# Altium schematic symbol library Capacitors.SchLib: 260 symbols (part 2 of 3)
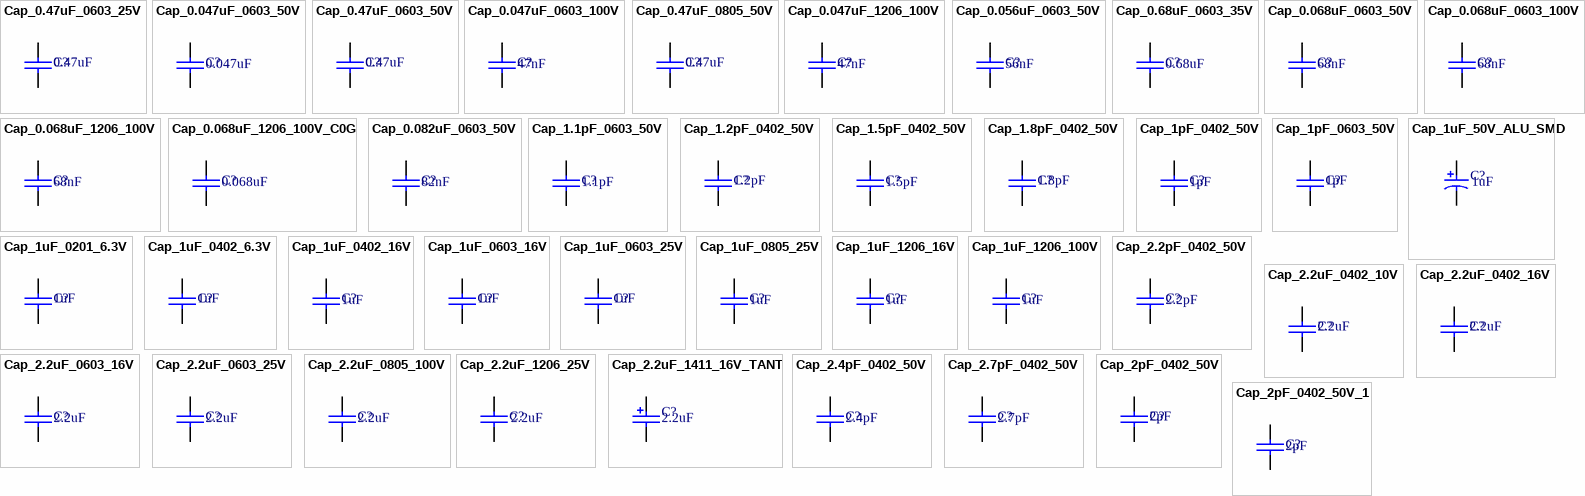
[diagram p7: symbols Cap_0.47uF_0603_25V to Cap_2pF_0402_50V_1]

## Cap_2.7pF_0402_50V
designator C?, comment value 2.7pF  (hidden comment: 2.7pF 50V)
CAP CER 2.7PF 50V C0G/NP0 0402; Manufacturer: Murata Electronics North America; Manufacturer Part Number: GJM1555C1H2R7CB01D; Supplier 1: Digi-Key; Supplier Part Number 1: 490-3093-1-ND; Reel stock: N/A; Last modified by: J.Jaramillo; Last modified date: 20240309; ComponentLink1Description: Digi-Key; ComponentLink1URL: https://www.digikey.com/product-detail/en/murata-electronics-north-america/GJM1555C1H2R7CB01D/490-3093-1-ND/702359
footprint 0402
footprint 0402_RF
pins: 1, 2

## Cap_2pF_0402_50V
designator C?, comment value 2pF  (hidden comment: 2pF 0402)
CAP CER 2PF 50V C0G/NPO 0402; Manufacturer: YAGEO; Manufacturer Part Number: CC0402CRNPO9BN2R0; Supplier 1: Digi-Key; Supplier Part Number 1: 311-1006-1-ND; Last modified by: J.Jaramillo; Last modified date: 20240309; ComponentLink1Description: Digi-Key; ComponentLink1URL: https://www.digikey.com/en/products/detail/yageo/CC0402CRNPO9BN2R0/302740
footprint 0402 (1005 Metric / 20190221 / C-A.Serna.A)
footprint 0402_RF (1005 Metric / 20190221 / C-A.Serna.A)
pins: 1, 2

## Cap_2pF_0402_50V_1
designator C?, comment value 2pF  (hidden comment: 2pF 50V)
CAP CER 2PF 50V C0G/NP0 0402; Manufacturer: Murata Electronics North America; Manufacturer Part Number: GJM1555C1H2R0CB01D; Supplier 1: Digi-key; Supplier Part Number 1: 490-3090-1-ND; Last modified by: J.Jaramillo; Last modified date: 20240309; ComponentLink1Description: Digi-key; ComponentLink1URL: https://www.digikey.com/en/products/detail/murata-electronics/GJM1555C1H2R0CB01D/702356
footprint 0402_RF
footprint 0402
pins: 1, 2

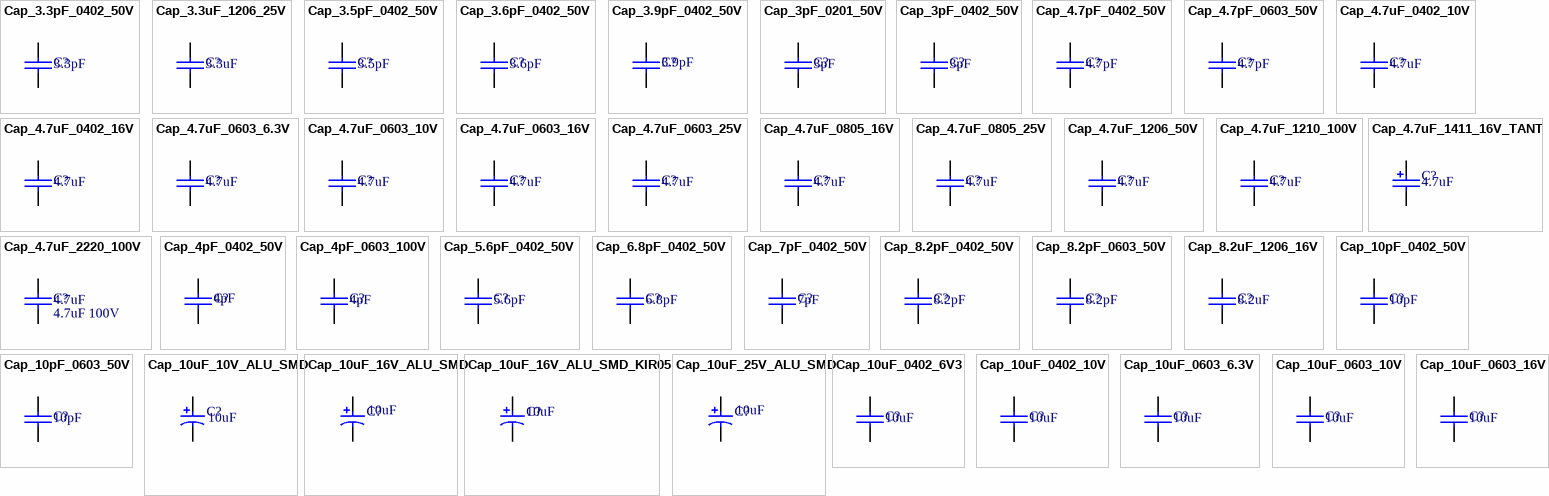
[diagram p2: symbols Cap_3.3pF_0402_50V to Cap_10uF_0603_16V]

## Cap_3.3pF_0402_50V
designator C?, comment value 3.3pF  (hidden comment: 3.3pF 50V)
CAP CER 3.3PF 50V C0G/NP0 0402; Manufacturer: Murata Electronics North America; Manufacturer Part Number: GCM1555C1H3R3CA16D; Supplier 1: Digi-key; Supplier Part Number 1: 490-17751-1-ND; Last modified by: J.Jaramillo; Last modified date: 20240309; ComponentLink1Description: Digi-key; ComponentLink1URL: https://www.digikey.com/en/products/detail/murata-electronics/GCM1555C1H3R3CA16D/4903601
footprint 0402_RF
footprint 0402
pins: 1, 2

## Cap_3.3uF_1206_25V
designator C?, comment value 3.3uF  (hidden comment: 3.3uF 25V)
CAP CER 3.3UF 25V X7R 1206; Manufacturer Part Number: CL31B335KAHVPNE; Manufacturer: Samsung; Last modified by: J.Jaramillo; Last modified date: 20240309; ComponentLink1Description: Digi-Key; ComponentLink1URL: https://www.digikey.com/en/products/detail/samsung-electro-mechanics/CL31B335KAHVPNE/5961344?s=N4IgTCBcDaIIxgOwDYC0yAcyAMq6oDkAREAXQF8g; Supplier 1: Digi-Key; Supplier Part Number 1: 1276-6860-1-ND
footprint 1206
pins: 1, 2

## Cap_3.5pF_0402_50V
designator C?, comment value 3.5pF  (hidden comment: 3.5pF 50V)
CAP CER 3.5PF 50V C0G/NP0 0402; Manufacturer: Murata Electronics; Manufacturer Part Number: GCQ1555C1H3R5CB01D; Supplier 1: Digikey; Supplier Part Number 1: 490-17466-1-ND; Last modified by: J.Jaramillo; Last modified date: 20240309; ComponentLink1Description: Digikey; ComponentLink1URL: https://www.digikey.com/en/products/detail/murata-electronics/GCQ1555C1H3R5CB01D/7802907?s=N4IgjCBcoMxaBjKAzAhgGwM4FMA0IB7KAbRAA4B2CAXXwAcAXKEAZQYCcBLAOwHMQAvvjAAWeCCSQ0WPIRIgATDErKQtEI2ZsufQcIBs4ydJz4ikUjACcYAKxk19JpFYce-IeApGUGU3IsQGAURMDI4dU0XbXc9RQAGESsfKT9Zc0sAOlsAAjoAMUcNZxAAVW5OBgB5ZABZbFRMAFd2bDiAWgUUjib0%2BWTqASGgA
footprint 0402_RF (1005 Metric / 20190221 / C-A.Serna.A)
pins: 1, 2

## Cap_3.6pF_0402_50V
designator C?, comment value 3.6pF  (hidden comment: 3.6pF 50V)
CAP CER 3.6PF 50V C0G/NP0 0402; Manufacturer: Murata Electronics; Manufacturer Part Number: GCQ1555C1H3R6CB01D; Supplier 1: Digi-key; Supplier Part Number 1: 490-17467-1-ND; Last modified by: J.Jaramillo; Last modified date: 20240309; ComponentLink1Description: Digi-key; ComponentLink1URL: https://www.digikey.com/en/products/detail/murata-electronics/GCQ1555C1H3R6CB01D/7802910
footprint 0402_RF
footprint 0402
pins: 1, 2

## Cap_3.9pF_0402_50V
designator C?, comment value 3.9pF  (hidden comment: 3.9pF 50V)
CAP CER 3.9PF 50V C0G/NP0 0402; Manufacturer: Samsung Electro-Mechanics; Manufacturer Part Number: GCM1555C1H3R9BA16D; Last modified by: J.Jaramillo; Last modified date: 20240309; ComponentLink1Description: Digi-key; ComponentLink1URL: https://www.digikey.com/en/products/detail/murata-electronics/GCM1555C1H3R9BA16D/7363190; Supplier 1: Digi-Key; Supplier Part Number 1: 490-16446-1-ND
footprint 0402_RF
footprint 0402
pins: 1, 2

## Cap_3pF_0201_50V
designator C?, comment value 3pF  (hidden comment: 3pF 50V)
CAP CER 3PF 50V C0G/NP0 0201; Manufacturer: Murata Electronics; Manufacturer Part Number: GJM0335C1H3R0BB01D; Supplier 1: Digi-Key; Supplier Part Number 1: 490-17171-1-ND; Last modified by: J.Jaramillo; Last modified date: 20240309; ComponentLink1Description: Digi-Key; ComponentLink1URL: https://www.digikey.com/en/products/detail/murata-electronics/GJM0335C1H3R0BB01D/9758990?s=N4IgTCBcDaIOICkCyAGAzGgrAYQIwAk0AlFAIVJVwBEQBdAXyA
footprint 0201 (20211214 / E.Naranjo)
pins: 1, 2

## Cap_3pF_0402_50V
designator C?, comment value 3pF  (hidden comment: 3pF 50V)
CAP CER 3PF 50V C0G/NP0 0402; Manufacturer: Murata Electronics North America; Manufacturer Part Number: GJM1555C1H3R0CB01D; Supplier 1: Digi-key; Supplier Part Number 1: 490-3094-1-ND; Last modified by: J.Jaramillo; Last modified date: 20240309; ComponentLink1Description: Digi-key; ComponentLink1URL: https://www.digikey.com/en/products/detail/murata-electronics/GJM1555C1H3R0CB01D/702287
footprint 0402_RF
footprint 0402
pins: 1, 2

## Cap_4.7pF_0402_50V
designator C?, comment value 4.7pF  (hidden comment: 4.7pF 50V)
CAP CER 4.7PF 50V C0G/NP0 0402; Manufacturer: Murata Electronics North America; Manufacturer Part Number: GJM1555C1H4R7CB01D; Supplier 1: Digi-Key; Supplier Part Number 1: 490-3100-1-ND; Last modified by: J.Jaramillo; Last modified date: 20240309; ComponentLink1Description: Digi-Key; ComponentLink1URL: https://www.digikey.com/product-detail/en/murata-electronics-north-america/GJM1555C1H4R7CB01D/490-3100-1-ND/702366
footprint 0402
footprint 0402_RF
pins: 1, 2

## Cap_4.7pF_0603_50V
designator C?, comment value 4.7pF  (hidden comment: 4.7pF 50V)
CAP CER 4.7PF 50V C0G/NPO 0603; Manufacturer Part Number: CC0603CRNPO9BN4R7; Manufacturer: Yageo; Reel stock: N/A; Last modified by: J.Jaramillo; Last modified date: 20240309; ComponentLink1Description: Digi-key; ComponentLink1URL: https://www.digikey.com/en/products/detail/yageo/CC0603CRNPO9BN4R7/5195149?s=N4IgTCBcDaIMwEYEFoEHYAsAGVyByAIiALoC%2BQA; Supplier 1: Digi-Key; Supplier Part Number 1: 311-1740-1-ND
footprint 0603
pins: 1, 2

## Cap_4.7uF_0402_10V
designator C?, comment value 4.7uF  (hidden comment: 4.7uF 10V)
CAP CER 4.7UF 10V X5R 0402; Manufacturer: Murata Electronics; Manufacturer Part Number: ZRB15XR61A475KE01D; Last modified by: J.Jaramillo; Last modified date: 20240309; ComponentLink1Description: Digi-key; ComponentLink1URL: https://www.digikey.com/products/en?keywords=490-13252-1-ND; Supplier 1: Digi-Key; Supplier Part Number 1: 490-13252-1-ND
footprint 0402_RF
footprint 0402
pins: 1, 2

## Cap_4.7uF_0402_16V
designator C?, comment value 4.7uF  (hidden comment: 4.7uF 16V)
CAP CER 4.7UF 16V X5R 0402; Manufacturer: Samsung Electro-Mechanics; Manufacturer Part Number: CL05A475MO5NUNC; Supplier 1: Digikey; Supplier Part Number 1: 1276-6836-1-ND; Last modified by: J.Jaramillo; Last modified date: 20240309; ComponentLink1Description: Digikey; ComponentLink1URL: https://www.digikey.com/en/products/detail/samsung-electro-mechanics/CL05A475MO5NUNC/5961320?s=N4IgjCBcpgLFoDGUBmBDANgZwKYBoQB7KAbXAAYAOAdlgCYQBdAgBwBcoQBlNgJwEsAdgHMQAXwJgAbAhDJI6bPiKkQAZgCcYAKyUmrDpG58hoieA2UNs%2BYtwFikMuX0h2nHgJHiCdcrGtoOVRMexUnEFgAOmoAVoAxV3cjAFVBfjYAeRQAWRw0LABXXhwfEABaBiD5PkLlRzJtJMMQMvKm6pClB1UGZjcW8XMqskQ0FiYxIA
footprint 0402 (1005 Metric / 20190221 / C-A.Serna.A)
footprint 0402_RF (1005 Metric / 20190221 / C-A.Serna.A)
pins: 1, 2

## Cap_4.7uF_0603_6.3V
designator C?, comment value 4.7uF  (hidden comment: 4.7uF 6.3V)
CAP CER 4.7UF 6.3V X5R 0603; Manufacturer: KEMET; Manufacturer Part Number: C0603C475K9PACTU; Supplier 1: Digi-Key; Supplier Part Number 1: 399-3482-1-ND; Reel stock: N/A; Last modified by: J.Jaramillo; Last modified date: 20240309; ComponentLink1Description: New link; ComponentLink1URL: https://www.digikey.com/product-detail/en/kemet/C0603C475K9PACTU/399-3482-1-ND/754775
footprint 0603 (1608 Metric / 20190221 / C-A.Serna.A)
pins: 1, 2

## Cap_4.7uF_0603_10V
designator C?, comment value 4.7uF  (hidden comment: 4.7uF 10V)
CAP CER 4.7UF 10V X5R 0603; Manufacturer: Yageo; Manufacturer Part Number: CC0603MRX5R6BB475; Supplier 1: Digi-Key; Supplier Part Number 1: 311-1820-1-ND; Last modified by: J.Jaramillo; Last modified date: 20240309; ComponentLink1Description: Digi-key; ComponentLink1URL: https://www.digikey.com/en/products/detail/yageo/CC0603MRX5R6BB475/5195227?s=N4IgTCBcDaIMwEYEFoEA4wAZXIHIBEQBdAXyA
footprint 0603
pins: 1, 2

## Cap_4.7uF_0603_16V
designator C?, comment value 4.7uF  (hidden comment: 4.7uF 16V)
CAP CER 4.7UF 16V X5R 0603; Manufacturer: TDK Corporation; Manufacturer Part Number: C1608X5R1C475K080AC; Reel stock: N/A; Last modified by: J.Jaramillo; Last modified date: 20240309; ComponentLink1Description: Digi-key; ComponentLink1URL: https://www.digikey.com/products/en?keywords=445-7478-1-ND; Supplier 1: Digi-Key; Supplier Part Number 1: 445-7478-1-ND
footprint 0603
pins: 1, 2

## Cap_4.7uF_0603_25V
designator C?, comment value 4.7uF  (hidden comment: 4.7uF 25V)
CAP CER 4.7UF 25V X5R 0603; Manufacturer: Murata Electronics; Manufacturer Part Number: GRM188R61E475KE11D; Reel stock: N/A; Last modified by: J.Jaramillo; Last modified date: 20240309; ComponentLink1Description: Digi-key; ComponentLink1URL: https://www.digikey.com/en/products/detail/murata-electronics/GRM188R61E475KE11D/3900465?s=N4IgTCBcDaICwE4AMBaA7GJBmFBGFAcgCIgC6AvkA; Supplier 1: Digi-Key; Supplier Part Number 1: 490-7203-1-ND
footprint 0603
pins: 1, 2

## Cap_4.7uF_0805_16V
designator C?, comment value 4.7uF  (hidden comment: 4.7uF 16V)
CAP CER 4.7UF 16V X5R 0805; Manufacturer: Samsung Electro-Mechanics; Manufacturer Part Number: CL21A475KOFNNNE; Last modified by: J.Jaramillo; Last modified date: 20240309; ComponentLink1Description: Digi-key; ComponentLink1URL: https://www.digikey.com/en/products/detail/samsung-electro-mechanics/CL21A475KOFNNNE/3889151; Supplier 1: Digi-Key; Supplier Part Number 1: 1276-1065-1-ND
footprint 0805 (2012 Metric / 20190221 / C-A.Serna.A)
pins: 1, 2

## Cap_4.7uF_0805_25V
designator C?, comment value 4.7uF  (hidden comment: 4.7uF 25V)
CAP CER 4.7UF 25V X5R 0805; Manufacturer: Samsung Electro-Mechanics; Manufacturer Part Number: CL21A475KAQNNNE; Last modified by: J.Jaramillo; Last modified date: 20240309; ComponentLink1Description: Digi-key; ComponentLink1URL: https://www.digikey.com/en/products/detail/samsung-electro-mechanics/CL21A475KAQNNNE/3886902; Supplier 1: Digi-Key; Supplier Part Number 1: 1276-1244-1-ND
footprint 0805 (2012 Metric / 20190221 / C-A.Serna.A)
pins: 1, 2

## Cap_4.7uF_1206_50V
designator C?, comment value 4.7uF  (hidden comment: 4.7uF 50V)
CAP CER 4.7UF 50V X5R 1206; Manufacturer: KEMET; Manufacturer Part Number: C1206C475K5PACTU; Supplier 1: Digi-Key; Supplier Part Number 1: 399-5507-1-ND; Reel stock: N/A; Last modified by: J.Jaramillo; Last modified date: 20240309; ComponentLink1Description: Digi-Key; ComponentLink1URL: https://www.digikey.com/product-detail/en/kemet/C1206C475K5PACTU/399-5507-1-ND/1950685
footprint 1206 (3216 Metric / 20190221 / C-A.Serna.A)
pins: 1, 2

## Cap_4.7uF_1210_100V
designator C?, comment value 4.7uF  (hidden comment: 4.7uF 100V)
CAP CER 4.7UF 100V X7R 1210; Manufacturer: Samsung Electro-Mechanics; Manufacturer Part Number: CL32B475KCVZW6E; Supplier 1: Digi-Key; Supplier Part Number 1: 1276-7060-1-ND; Last modified by: J.Jaramillo; Last modified date: 20240309; ComponentLink1Description: Digi-key; ComponentLink1URL: https://www.digikey.com/en/products/detail/samsung-electro-mechanics/CL32B475KCVZW6E/7320565?s=N4IgTCBcDaIIxgOwDYC0iAMyOrqgcgCIgC6AvkA
footprint 1210 (3225 Metric / 20190221 / C-A.Serna.A)
pins: 1, 2

## Cap_4.7uF_1411_16V_TANT
designator C?, comment value 4.7uF  (hidden comment: 4.7uF 16V)
CAP TANT 4.7UF 10% 16V 1411; Manufacturer: KYOCERA AVX; Manufacturer Part Number: TAJB475K016RNJ; Supplier 1: Digi-Key; Supplier Part Number 1: 478-1689-1-ND; Last modified by: J.Jaramillo; Last modified date: 20240309; ComponentLink1Description: Digi-Key; ComponentLink1URL: https://www.digikey.com/en/products/detail/kyocera-avx/TAJB475K016RNJ/563794?s=N4IgTCBcDaICoEEBSAhALAdgKwGkAMAjAGwBKAckiALoC%2BQA
footprint 1411_TANT (20220308 / E.Naranjo)
pins: 1, 2

## Cap_4.7uF_2220_100V
designator C?, comment 4.7uF 100V  value 4.7uF
CAP CER 4.7UF 100V X7R 2220; Manufacturer: TDK Corporation; Manufacturer Part Number: CGA9N2X7R2A475M230KA; Supplier 1: Digi-Key; Supplier Part Number 1: 445-13141-1-ND; Last modified by: J.Jaramillo; Last modified date: 20240309; ComponentLink1Description: Digi-key; ComponentLink1URL: https://www.digikey.com/en/products/detail/tdk-corporation/CGA9N2X7R2A475M230KA/3950377
footprint 2220 (Chip Capacitor, 2-Leads, Body 5.70x5.00mm, IPC Medium Density)
pins: 1, 2

## Cap_4pF_0402_50V
designator C?, comment value 4pF  (hidden comment: 4pF 0402)
CAP CER 4PF 50V C0G/NP0 0402; Manufacturer: Murata Electronics; Manufacturer Part Number: GRM1555C1H4R0CA01D; Supplier 1: Digi-Key; Supplier Part Number 1: 490-5873-1-ND; Last modified by: J.Jaramillo; Last modified date: 20240309; ComponentLink1Description: Digi-Key; ComponentLink1URL: https://www.digikey.com/en/products/detail/murata-electronics/GRM1555C1H4R0CA01D/3175192
footprint 0402 (1005 Metric / 20190221 / C-A.Serna.A)
footprint 0402_RF (1005 Metric / 20190221 / C-A.Serna.A)
pins: 1, 2

## Cap_4pF_0603_100V
designator C?, comment value 4pF  (hidden comment: 4pF 100V)
CAP CER 4PF 100V C0G/NP0 0603; Manufacturer: AVX Corporation; Manufacturer Part Number: 06031A4R0CAT2A; Supplier 1: Digi-Key; Supplier Part Number 1: 478-3693-1-ND; Last modified by: J.Jaramillo; Last modified date: 20240309; ComponentLink1Description: Digi-Key; ComponentLink1URL: https://www.digikey.com/product-detail/en/avx-corporation/06031A4R0CAT2A/478-3693-1-ND/1116391
footprint 0603
pins: 1, 2

## Cap_5.6pF_0402_50V
designator C?, comment value 5.6pF  (hidden comment: 5.6pF 50V)
CAP CER 5.6PF 50V C0G/NP0 0402; Manufacturer: Murata Electronics; Manufacturer Part Number: GCM1555C1H5R6DA16D; Supplier 1: Digi-key; Supplier Part Number 1: 490-13292-1-ND; Last modified by: J.Jaramillo; Last modified date: 20240309; ComponentLink1Description: Digi-key; ComponentLink1URL: https://www.digikey.com/en/products/detail/murata-electronics/GCM1555C1H5R6DA16D/2591091
footprint 0402_RF
footprint 0402
pins: 1, 2

## Cap_6.8pF_0402_50V
designator C?, comment value 6.8pF  (hidden comment: 6.8pF 50V)
CAP CER 6.8PF 50V C0G/NP0 0402; Manufacturer: Murata Electronics North America; Manufacturer Part Number: GCM1555C1H6R8DA16D; Supplier 1: Digi-key; Supplier Part Number 1: 490-13293-1-ND; Last modified by: J.Jaramillo; Last modified date: 20240309; ComponentLink1Description: Digi-key; ComponentLink1URL: https://www.digikey.com/en/products/detail/murata-electronics/GCM1555C1H6R8DA16D/4903651
footprint 0402_RF
footprint 0402
pins: 1, 2

## Cap_7pF_0402_50V
designator C?, comment value 7pF  (hidden comment: 7pF 50V)
CAP CER 7PF 50V C0G/NP0 0402; Manufacturer: Murata Electronics; Manufacturer Part Number: GCQ1555C1H7R0BB01D; Supplier 1: Digi-key; Supplier Part Number 1: 490-17503-1-ND; Last modified by: J.Jaramillo; Last modified date: 20240309; ComponentLink1Description: Digi-key; ComponentLink1URL: https://www.digikey.com/en/products/detail/murata-electronics/GCQ1555C1H7R0BB01D/7803036
footprint 0402_RF
footprint 0402
pins: 1, 2

## Cap_8.2pF_0402_50V
designator C?, comment value 8.2pF  (hidden comment: 8.2pF 50V)
CAP CER 8.2PF 50V C0G/NP0 0402; Manufacturer: Murata Electronics North America; Manufacturer Part Number: GJM1555C1H8R2CB01D; Supplier 1: Digi-key; Supplier Part Number 1: 490-3110-1-ND; Last modified by: J.Jaramillo; Last modified date: 20240309; ComponentLink1Description: Digi-key; ComponentLink1URL: https://www.digikey.com/en/products/detail/murata-electronics/GJM1555C1H8R2CB01D/702303
footprint 0402_RF
footprint 0402
pins: 1, 2

## Cap_8.2pF_0603_50V
designator C?, comment value 8.2pF  (hidden comment: 8.2pF 50V)
CAP CER 8.2PF 50V C0G/NP0 0603; Manufacturer Part Number: CL10C8R2DB8NNNC; Manufacturer: Samsung Electro-Mechanics; Reel stock: N/A; Last modified by: J.Jaramillo; Last modified date: 20240309; ComponentLink1Description: Digi-key; ComponentLink1URL: https://www.digikey.com/en/products/detail/samsung-electro-mechanics/CL10C8R2DB8NNNC/3888008; Supplier 1: Digi-Key; Supplier Part Number 1: 1276-2350-1-ND
footprint 0603
pins: 1, 2

## Cap_8.2uF_1206_16V
designator C?, comment value 8.2uF  (hidden comment: 8.2uF 16V)
CAP CER 8.2UF 16V X7R 1206; Manufacturer: KEMET; Manufacturer Part Number: C1206C825M4RAC7800; Supplier 1: Digi-Key; Supplier Part Number 1: 399-C1206C825M4RAC7800CT-ND; Last modified by: J.Jaramillo; Last modified date: 20240309; ComponentLink1Description: Digi-Key; ComponentLink1URL: https://www.digikey.com/en/products/detail/kemet/C1206C825M4RAC7800/1090865
footprint 1206 (3216 Metric / 20190221 / C-A.Serna.A)
footprint 1206_0.4mm (3216 metric/20230303/J-A.Sepulveda)
footprint 1206_0.6mm (3216 Metric/20230206/J-A.Sepulveda)
footprint 1206_0.8mm (3216 Metric/20230206/J-A.Sepulveda)
footprint 1206_1.0mm (3216 Metric/20230206/J-A.Sepulveda)
footprint 1206_1.2mm (3216 Metric/20230206/J-A.Sepulveda)
footprint 1206_1.4mm (3216 Metric/20230206/J-A.Sepulveda)
footprint 1206_1.6mm (3216 Metric/20230206/J-A.Sepulveda)
footprint 1206_1.8mm (3216 Metric/20230206/J-A.Sepulveda)
footprint 1206_2.0mm (3216 Metric/20230206/J-A.Sepulveda)
footprint 1206_2.2mm (3216 Metric/20230206/J-A.Sepulveda)
footprint 1206_2.4mm (3216 Metric/20230206/J-A.Sepulveda)
footprint 1206_2.8mm (3216 Metric/20230206/J-A.Sepulveda)
pins: 1, 2

## Cap_10pF_0402_50V
designator C?, comment value 10pF  (hidden comment: 10pF 50V)
CAP CER 10PF 50V C0G/NP0 0402; Manufacturer: Murata Electronics North America; Manufacturer Part Number: GRM1555C1H100RA01D; Supplier 1: Digi-key; Supplier Part Number 1: 490-11374-1-ND; Reel stock: N/A; Last modified by: J.Jaramillo; Last modified date: 20240309; ComponentLink1Description: Digi-key; ComponentLink1URL: https://www.digikey.com/products/en?keywords=490-11374-1-ND
footprint 0402_RF
footprint 0402
pins: 1, 2

## Cap_10pF_0603_50V
designator C?, comment value 10pF  (hidden comment: 10pF 50V)
CAP CER 10PF 50V C0G/NP0 0603; Manufacturer Part Number: 0603N100J500CT; Manufacturer: Walsin Technologies; Reel stock: N/A; Last modified by: J.Jaramillo; Last modified date: 20240309; ComponentLink1Description: Digi-key; ComponentLink1URL: https://www.digikey.com/en/products/detail/walsin-technology-corporation/0603N100J500CT/9354968?s=N4IgTCBcDaIIxgJxgLRwCwHY5pQOQBEQBdAXyA; Supplier 1: Digi-Key; Supplier Part Number 1: 1292-1471-1-ND
footprint 0603
pins: 1, 2

## Cap_10uF_10V_ALU_SMD
designator C?, comment value 10uF  (hidden comment: 10uF 10V)
CAP ALUM 10UF 20% 10V SMD; Manufacturer: Würth Elektronik; Manufacturer Part Number: 865090240001; Supplier 1: Digi-Key; Supplier Part Number 1: 732-8394-1-ND; Last modified by: J.Jaramillo; Last modified date: 20240309; ComponentLink1Description: New link; ComponentLink1URL: https://www.digikey.com/en/products/detail/w%C3%BCrth-elektronik/865090240001/5727989?s=N4IgTCBcDaIOwGYwFoAcCCcAWZBGZAcgCIAEIAugL5A
footprint RADIAL-CAN-SMD_Diax4mm_Hx5.5mm (20191118 / J-P.Vargas.A)
pins: 1, 2

## Cap_10uF_16V_ALU_SMD
designator C?, comment value 10uF  (hidden comment: 10uF 16V)
CAP ALUM 10UF 20% 16V SMD; Manufacturer: Nichicon; Manufacturer Part Number: UZS1C100MCL1GB; Last modified by: J.Jaramillo; Last modified date: 20240309; ComponentLink1Description: Digi-Key; ComponentLink1URL: https://www.digikey.com/products/en?keywords=493-10137-1-ND; Supplier 1: Digi-Key; Supplier Part Number 1: 493-10137-1-ND
footprint RADIAL-CAN-SMD_DIAX4MM_Hx4.6mm (/2020.403/V-A.Patino)
pins: 1, 2

## Cap_10uF_16V_ALU_SMD_KIR05
designator C?, comment value 10uF  (hidden comment: 10uF 16V)
CAP ALUM 10UF 20% 16V SMD; Manufacturer: Nichicon; Manufacturer Part Number: UZG1C100MCL1GB; Last modified by: J.Jaramillo; Last modified date: 20240309; ComponentLink1Description: Digi-Key; ComponentLink1URL: https://www.digikey.com/products/en?keywords=493-10050-1-ND; Supplier 1: Digi-Key; Supplier Part Number 1: 493-10050-1-ND
footprint RADIAL-CAN-SMD_DIAX4MM_Hx3.95mm (/20200715/N-A.Potosi)
pins: 1, 2

## Cap_10uF_25V_ALU_SMD
designator C?, comment value 10uF  (hidden comment: 10uF 25V)
CAP ALUM 10UF 20% 25V SMD; Manufacturer: Würth Elektronik; Manufacturer Part Number: 865080440002; Last modified by: J.Jaramillo; Last modified date: 20240309; ComponentLink1Description: Digi-Key; ComponentLink1URL: https://www.digikey.com/product-detail/en/w-rth-elektronik/865080440002/732-8430-1-ND/5728387; Supplier 1: Digi-Key; Supplier Part Number 1: 732-8430-1-ND
footprint RADIAL-CAN-SMD_Diax4mm_Hx5.5mm (20191118 / J-P.Vargas.A)
pins: 1, 2

## Cap_10uF_0402_6V3
designator C?, comment value 10uF  (hidden comment: 10uF 6V3)
CAP CER 10UF 6.3V X5R 0402; Manufacturer: Murata Electronics North America; Manufacturer Part Number: GRM155R60J106ME15D; Supplier 1: Digi-key; Supplier Part Number 1: 490-13238-1-ND; Last modified by: J.Jaramillo; Last modified date: 20240309; ComponentLink1Description: Digi-key; ComponentLink1URL: https://www.digikey.com/en/products/detail/murata-electronics/GRM155R60J106ME15D/5877401?s=N4IgTCBcDaICwE4AMBaAjAZjBgHOlAcgCIgC6AvkA
footprint 0402
footprint 0402_RF (1005 Metric / 20190221 / C-A.Serna.A)
pins: 1, 2

## Cap_10uF_0402_10V
designator C?, comment value 10uF  (hidden comment: 10uF 10V)
CAP CER 10UF 10V X5R 0402; Manufacturer: Samsung Electro-Mechanics; Manufacturer Part Number: CL05A106MP5NUNC; Supplier 1: Digikey; Supplier Part Number 1: 1276-1450-1-ND; Last modified by: J.Jaramillo; Last modified date: 20240309; ComponentLink1Description: Digikey; ComponentLink1URL: https://www.digikey.com/en/products/detail/samsung-electro-mechanics/CL05A106MP5NUNC/3887108
footprint 0402 (1005 Metric / 20190221 / C-A.Serna.A)
footprint 0402_RF (1005 Metric / 20190221 / C-A.Serna.A)
pins: 1, 2

## Cap_10uF_0603_6.3V
designator C?, comment value 10uF  (hidden comment: 10uF 6.3V)
CAP CER 10UF 6.3V X5R 0603; Manufacturer: Murata Electronics North America; Manufacturer Part Number: GRM188R60J106ME47D; Supplier 1: Digi-Key; Supplier Part Number 1: 490-3896-1-ND; Last modified by: J.Jaramillo; Last modified date: 20240309; ComponentLink1Description: Digi-Key; ComponentLink1URL: https://www.digikey.com/products/en?keywords=490-3896-1-ND
footprint 0603 (1608 Metric / 20190221 / C-A.Serna.A)
pins: 1, 2

## Cap_10uF_0603_10V
designator C?, comment value 10uF  (hidden comment: 10uF 10V)
CAP CER 10UF 10V X5R 0603; Manufacturer: Murata Electronics North America; Manufacturer Part Number: GRM188R61A106KE69D; Supplier 1: Digi-key; Supplier Part Number 1: 490-10474-1-ND; Last modified by: J.Jaramillo; Last modified date: 20240309; ComponentLink1Description: Digi-key; ComponentLink1URL: https://www.digikey.com/products/en?keywords=490-10474-1-ND
footprint 0603
pins: 1, 2

## Cap_10uF_0603_16V
designator C?, comment value 10uF  (hidden comment: 10uF 16V)
CAP CER 10UF 16V X5R 0603; Manufacturer: Taiyo Yuden; Manufacturer Part Number: EMK107BBJ106MA-T; Last modified by: J.Jaramillo; Last modified date: 20240309; ComponentLink1Description: Digi-key; ComponentLink1URL: https://www.digikey.com/products/en?keywords=587-3238-1-ND; Supplier 1: Digi-Key; Supplier Part Number 1: 587-3238-1-ND
footprint 0603
pins: 1, 2

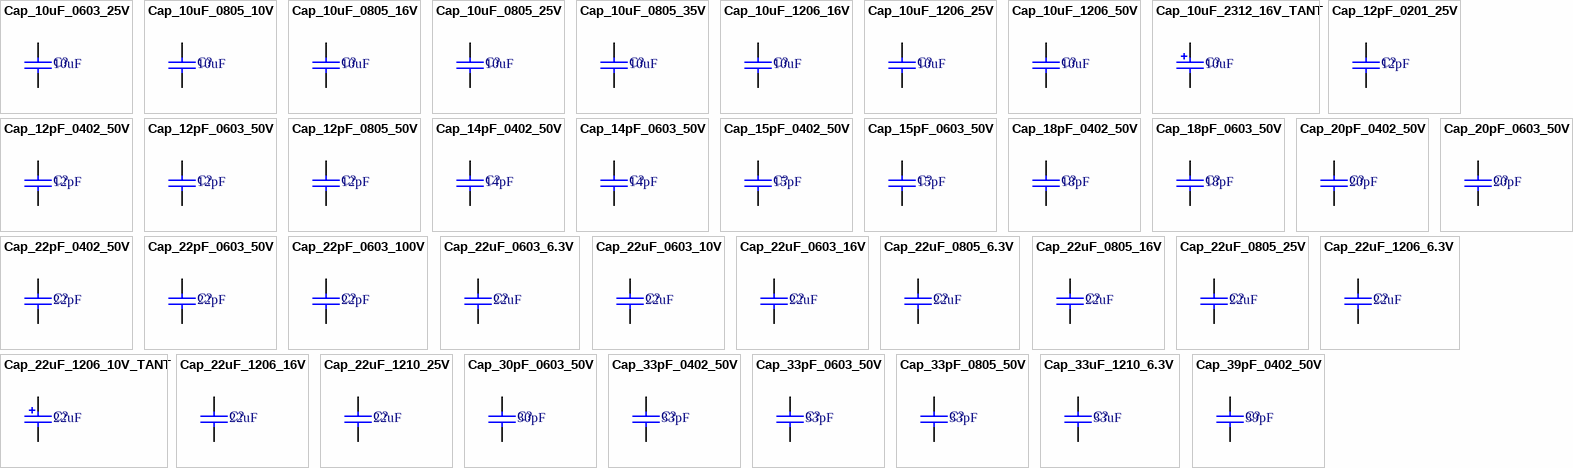
[diagram p3: symbols Cap_10uF_0603_25V to Cap_39pF_0402_50V]

## Cap_10uF_0603_25V
designator C?, comment value 10uF  (hidden comment: 10uF 25V)
CAP CER 10UF 25V X5R 0603; Manufacturer: Murata Electronics; Manufacturer Part Number: GRT188R61E106ME13D; Supplier 1: Digi-Key; Supplier Part Number 1: 490-12323-1-ND; Last modified by: J.Jaramillo; Last modified date: 20240309; ComponentLink1Description: Digi-Key; ComponentLink1URL: https://www.digikey.com/en/products/detail/murata-electronics/GRT188R61E106ME13D/5416745
footprint 0603 (1608 Metric / 20190221 / C-A.Serna.A)
pins: 1, 2

## Cap_10uF_0805_10V
designator C?, comment value 10uF  (hidden comment: 10uF 10V)
CAP CER 10UF 10V X5R 0805; Manufacturer: KEMET; Manufacturer Part Number: C0805C106K8PACTU; Supplier 1: Digi-Key; Supplier Part Number 1: 399-4925-1-ND; Reel stock: N/A; Last modified by: J.Jaramillo; Last modified date: 20240309; ComponentLink1Description: Digi-Key; ComponentLink1URL: https://www.digikey.com/product-detail/en/kemet/C0805C106K8PACTU/399-4925-1-ND/1090920
footprint 0805 (2012 Metric / 20190221 / C-A.Serna.A)
pins: 1, 2

## Cap_10uF_0805_16V
designator C?, comment value 10uF  (hidden comment: 10uF 16V)
CAP CER 10UF 16V X5R 0805; Manufacturer: Yageo; Manufacturer Part Number: CC0805KKX5R7BB106; Reel stock: N/A; Last modified by: J.Jaramillo; Last modified date: 20240309; ComponentLink1Description: Digi-Key; ComponentLink1URL: https://www.digikey.com/en/products/detail/yageo/CC0805KKX5R7BB106/5195271; Supplier 1: Digi-Key; Supplier Part Number 1: 311-1865-1-ND
footprint 0805
pins: 1, 2

## Cap_10uF_0805_25V
designator C?, comment value 10uF  (hidden comment: 10uF 25V)
CAP CER 10UF 25V X5R 0805; Manufacturer: Yageo; Manufacturer Part Number: CC0805KKX5R8BB106; Supplier 1: Digi-Key; Supplier Part Number 1: 311-1869-1-ND; Last modified by: J.Jaramillo; Last modified date: 20240309; ComponentLink1Description: Digi-Key; ComponentLink1URL: https://www.digikey.com/product-detail/en/yageo/CC0805KKX5R8BB106/311-1869-1-ND/5195771
footprint 0805
pins: 1, 2

## Cap_10uF_0805_35V
designator C?, comment value 10uF  (hidden comment: 10uF 35V)
CAP CER 10UF 35V X5R 0805; Manufacturer: Taiyo Yuden; Manufacturer Part Number: GMK212BBJ106MG-T; Supplier 1: Digi-Key; Supplier Part Number 1: 587-4894-1-ND; Last modified by: J.Jaramillo; Last modified date: 20240309; ComponentLink1Description: Digi-Key; ComponentLink1URL: https://www.digikey.com/product-detail/en/taiyo-yuden/GMK212BBJ106MG-T/587-4894-1-ND/6563737
footprint 0805
pins: 1, 2

## Cap_10uF_1206_16V
designator C?, comment value 10uF  (hidden comment: 10uF 16V)
CAP CER 10UF 16V X5R 1206; Manufacturer: KEMET; Manufacturer Part Number: C1206C106K4PACTU; Supplier 1: Digi-Key; Supplier Part Number 1: 399-5091-1-ND; Reel stock: N/A; Last modified by: J.Jaramillo; Last modified date: 20240309; ComponentLink1Description: Digi-Key; ComponentLink1URL: https://www.digikey.com/en/products/detail/kemet/C1206C106K4PACTU/1465596?s=N4IgTCBcDaIMwE4EFoCsAGBBGZOByAIiALoC%2BQA
footprint 1206 (3216 Metric / 20190221 / C-A.Serna.A)
pins: 1, 2

## Cap_10uF_1206_25V
designator C?, comment value 10uF  (hidden comment: 10uF 25V)
CAP CER 10UF 25V X5R 1206; Manufacturer: Samsung; Manufacturer Part Number: CL31A106KAHNNNE; Reel stock: N/A; Last modified by: J.Jaramillo; Last modified date: 20240309; ComponentLink1Description: Digi-Key; ComponentLink1URL: https://www.digikey.com/en/products/detail/samsung-electro-mechanics/CL31A106KAHNNNE/3886733?s=N4IgTCBcDaIIxgOwDYC0cAMiCs7UDkAREAXQF8g; Supplier 1: Digi-Key; Supplier Part Number 1: 1276-1075-1-ND
footprint 1206
pins: 1, 2

## Cap_10uF_1206_50V
designator C?, comment value 10uF  (hidden comment: 10uF 50V)
CAP CER 10UF 50V X5R 1206; Manufacturer: Murata Electronics North America; Manufacturer Part Number: GRT31CR61H106ME01L; Last modified by: J.Jaramillo; Last modified date: 20240309; ComponentLink1Description: Digi-Key; ComponentLink1URL: https://www.digikey.com/product-detail/en/murata-electronics-north-america/GRT31CR61H106ME01L/490-12457-1-ND/5417158; Supplier 1: Digi-Key; Supplier Part Number 1: 490-12457-1-ND
footprint 1206 (3216 Metric / 20190221 / C-A.Serna.A)
pins: 1, 2

## Cap_10uF_2312_16V_TANT
designator C?, comment value 10uF  (hidden comment: 10uF 16V)
CAP TANT 10UF 10% 16V 2312; Manufacturer: KEMET; Manufacturer Part Number: T491C106K016AT7280; Supplier 1: Digi-Key; Supplier Part Number 1: 399-10156-2-ND; Reel stock: N/A; Last modified by: J.Jaramillo; Last modified date: 20240309; ComponentLink1Description: Digi-Key; ComponentLink1URL: https://www.digikey.com/products/en?keywords=399-10156-2-ND
footprint 2312_TANT (6032 Metric / 20230427 / J.Jaramillo)
pins: 1, 2

## Cap_12pF_0201_25V
designator C?, comment value 12pF  (hidden comment: 12pF 25V)
CAP CER 12PF 25V C0G/NP0 0201; Manufacturer: Johanson Technology Inc.; Manufacturer Part Number: 250R05L120GV4T; Supplier 1: Digi-Key; Supplier Part Number 1: 712-1208-1-ND; Last modified by: J.Jaramillo; Last modified date: 20240309; ComponentLink1Description: Digi-Key; ComponentLink1URL: https://www.digikey.com/en/products/detail/johanson-technology-inc/250R05L120GV4T/1561476?s=N4IgTCBcDa4KwAYBKC4BkCMYEHEBqALACogC6AvkA
footprint 0201 (20211214 / E.Naranjo)
pins: 1, 2

## Cap_12pF_0402_50V
designator C?, comment value 12pF  (hidden comment: 12pF 50V)
CAP CER 12PF 50V C0G/NP0 0402; Manufacturer: Murata Electronics North America; Manufacturer Part Number: GJM1555C1H120GB01D; Supplier 1: Digi-key; Supplier Part Number 1: 490-8078-1-ND; Reel stock: N/A; Last modified by: J.Jaramillo; Last modified date: 20240309; ComponentLink1Description: Digi-key; ComponentLink1URL: https://www.digikey.com/en/products/detail/murata-electronics/GJM1555C1H120GB01D/2592851
footprint 0402_RF
footprint 0402
pins: 1, 2

## Cap_12pF_0603_50V
designator C?, comment value 12pF  (hidden comment: 12pF 50V)
CAP CER 12PF 50V C0G/NP0 0603; Manufacturer: Walsin Technologies; Manufacturer Part Number: 0603N120J500CT; Reel stock: N/A; Last modified by: J.Jaramillo; Last modified date: 20240309; ComponentLink1Description: Digi-key; ComponentLink1URL: https://www.digikey.com/en/products/detail/walsin-technology-corporation/0603N120J500CT/9354977?s=N4IgTCBcDaIIxgJxgLRwCwA4AMaUDkAREAXQF8g; Supplier 1: Digi-Key; Supplier Part Number 1: 1292-1480-1-ND
footprint 0603
pins: 1, 2

## Cap_12pF_0805_50V
designator C?, comment value 12pF  (hidden comment: 12pF 50V)
CAP CER 12PF 50V C0G/NPO 0805; Manufacturer: Yageo; Manufacturer Part Number: CC0805JRNPO9BN120; Supplier 1: Digi-Key; Supplier Part Number 1: 311-1100-1-ND; Reel stock: N/A; Last modified by: J.Jaramillo; Last modified date: 20240309; ComponentLink1Description: Digi-Key; ComponentLink1URL: https://www.digikey.com/product-detail/en/yageo/CC0805JRNPO9BN120/311-1100-1-ND/303010
footprint 0805 (2012 Metric / 20190221 / C-A.Serna.A)
pins: 1, 2

## Cap_14pF_0402_50V
designator C?, comment value 14pF  (hidden comment: 14pF 50V)
CAP CER 14PF 50V NP0 0402; Manufacturer: AVX Corporation; Manufacturer Part Number: 04025U140GAT2A; Supplier 1: Digi-Key; Supplier Part Number 1: 478-10140-1-ND; Last modified by: J.Jaramillo; Last modified date: 20240309; ComponentLink1Description: Digo-Key; ComponentLink1URL: https://www.digikey.com/product-detail/en/avx-corporation/04025U140GAT2A/478-10140-1-ND/6797463
footprint 0402 (1005 Metric / 20190221 / C-A.Serna.A)
footprint 0402_RF (1005 Metric / 20190221 / C-A.Serna.A)
pins: 1, 2

## Cap_14pF_0603_50V
designator C?, comment value 14pF  (hidden comment: 14pF 50V)
CAP CER 14PF 50V C0G/NP0 0603; Manufacturer: Samsung Electro-Mechanics; Manufacturer Part Number: CL10C140JB8NNNC; Supplier 1: Digi-Key; Supplier Part Number 1: 1276-2187-1-ND; Last modified by: J.Jaramillo; Last modified date: 20240309; ComponentLink1Description: Digi-Key; ComponentLink1URL: https://www.digikey.com/product-detail/en/samsung-electro-mechanics/CL10C140JB8NNNC/1276-2187-1-ND/3890273
footprint 0603
pins: 1, 2

## Cap_15pF_0402_50V
designator C?, comment value 15pF  (hidden comment: 15pF 50V)
CAP CER 15PF 50V C0G/NP0 0402; Manufacturer: Yageo; Manufacturer Part Number: CC0402FRNPO9BN150; Supplier 1: Digi-key; Supplier Part Number 1: 311-1642-1-ND; Reel stock: N/A; Last modified by: J.Jaramillo; Last modified date: 20240309; ComponentLink1Description: Digi-key; ComponentLink1URL: https://www.digikey.com/en/products/detail/yageo/CC0402FRNPO9BN150/5195051?s=N4IgTCBcDaIMwEYEFoEDYAsZXIHIBEQBdAXyA
footprint 0402
footprint 0402_RF
pins: 1, 2

## Cap_15pF_0603_50V
designator C?, comment value 15pF  (hidden comment: 15pF 50V)
CAP CER 15PF 50V C0G/NPO 0603; Manufacturer: Yageo; Manufacturer Part Number: CC0603JRNPO9BN150; Supplier 1: Digi-Key; Supplier Part Number 1: 311-1060-1-ND; Reel stock: N/A; Last modified by: J.Jaramillo; Last modified date: 20240309; ComponentLink1Description: Digi-Key; ComponentLink1URL: https://www.digikey.com/product-detail/en/yageo/CC0603JRNPO9BN150/311-1060-1-ND/302970
footprint 0603
pins: 1, 2

## Cap_18pF_0402_50V
designator C?, comment value 18pF  (hidden comment: 18pF 50V)
CAP CER 18PF 50V C0G/NP0 0402; Manufacturer: Murata Electronics North America; Manufacturer Part Number: GJM1555C1H180JB01D; Supplier 1: Digi-Key; Supplier Part Number 1: 490-3119-1-ND; Reel stock: N/A; Last modified by: J.Jaramillo; Last modified date: 20240309; ComponentLink1Description: Digi-key; ComponentLink1URL: https://www.digikey.com/en/products/detail/murata-electronics/GJM1555C1H180JB01D/702312
footprint 0402_RF
footprint 0402
pins: 1, 2

## Cap_18pF_0603_50V
designator C?, comment value 18pF  (hidden comment: 18pF 50V)
CAP CER 18PF 50V C0G/NP0 0603; Manufacturer: KEMET; Manufacturer Part Number: C0603C180K5GACTU; Supplier 1: Digi-Key; Supplier Part Number 1: 399-7866-1-ND; Reel stock: N/A; Last modified by: J.Jaramillo; Last modified date: 20240309; ComponentLink1Description: Digi-key; ComponentLink1URL: https://www.digikey.com/en/products/detail/kemet/C0603C180K5GACTU/2200063?s=N4IgTCBcDaIMwE4EFoDsAOAbJ5BGZAcgCIgC6AvkA
footprint 0603
pins: 1, 2

## Cap_20pF_0402_50V
designator C?, comment value 20pF  (hidden comment: 20pF 50V)
CAP CER 20PF 50V C0G/NP0 0402; Manufacturer: Walsin Technologies; Manufacturer Part Number: 0402N200J500CT; Reel stock: N/A; Last modified by: J.Jaramillo; Last modified date: 20240309; ComponentLink1Description: Digi-key; ComponentLink1URL: https://www.digikey.com/en/products/detail/walsin-technology-corporation/0402N200J500CT/9354775?s=N4IgTCBcDaIIxgJxgLQIOwA40oHIBEQBdAXyA; Supplier 1: Digi-Key; Supplier Part Number 1: 1292-1278-1-ND
footprint 0402
footprint 0402_RF
pins: 1, 2

## Cap_20pF_0603_50V
designator C?, comment value 20pF  (hidden comment: 20pF 50V)
CAP CER 20PF 50V C0G/NP0 0603; Manufacturer: Walsin Technologies; Manufacturer Part Number: 0603N200J500CT; Reel stock: N/A; Last modified by: J.Jaramillo; Last modified date: 20240309; ComponentLink1Description: Digi-Key; ComponentLink1URL: https://www.digikey.com/en/products/detail/walsin-technology-corporation/0603N200J500CT/9354995?s=N4IgTCBcDaIIxgJxgLRwCyIBxpQOQBEQBdAXyA; Supplier 1: Digi-Key; Supplier Part Number 1: 1292-1498-1-ND
footprint 0603
pins: 1, 2

## Cap_22pF_0402_50V
designator C?, comment value 22pF  (hidden comment: 22pF 50V)
CAP CER 22PF 50V NP0 0402; Manufacturer: YAGEO; Manufacturer Part Number: CC0402JPNPO9BN220; Supplier 1: Digi-Key; Supplier Part Number 1: 13-CC0402JPNPO9BN220CT-ND; Reel stock: N/A; Last modified by: J.Jaramillo; Last modified date: 20240309; ComponentLink1Description: Digi-key; ComponentLink1URL: https://www.digikey.com/en/products/detail/yageo/CC0402JPNPO9BN220/11489897?s=N4IgTCBcDaIIwGYC0BhFAGALOsApACgHL4DyAnAEKFhjooAqShAIiALoC%2BQA
footprint 0402
footprint 0402_RF
pins: 1, 2

## Cap_22pF_0603_50V
designator C?, comment value 22pF  (hidden comment: 22pF 50V)
CAP CER 22PF 50V C0G/NP0 0603; Manufacturer: Walsin Technologies; Manufacturer Part Number: 0603N220J500CT; Reel stock: N/A; Last modified by: J.Jaramillo; Last modified date: 20240309; ComponentLink1Description: Digi-Key; ComponentLink1URL: https://www.digikey.com/en/products/detail/walsin-technology-corporation/0603N220J500CT/9355000?s=N4IgTCBcDaIIxgJxgLRwKwAYDMaUDkAREAXQF8g; Supplier 1: Digi-Key; Supplier Part Number 1: 1292-1503-1-ND
footprint 0603
pins: 1, 2

## Cap_22pF_0603_100V
designator C?, comment value 22pF  (hidden comment: 22pF 100V)
CAP CER 22PF 100V C0G/NPO 0603; Manufacturer: Yageo; Manufacturer Part Number: CC0603JRNPO0BN220; Supplier 1: Digi-Key; Supplier Part Number 1: 311-1755-1-ND; Last modified by: J.Jaramillo; Last modified date: 20240309; ComponentLink1Description: Digi-Key; ComponentLink1URL: https://www.digikey.com/product-detail/en/yageo/CC0603JRNPO0BN220/311-1755-1-ND/5195657
footprint 0603
pins: 1, 2

## Cap_22uF_0603_6.3V
designator C?, comment value 22uF  (hidden comment: 22uF 6.3V)
CAP CER 22UF 6.3V X5R 0603; Manufacturer Part Number: GRM188R60J226MEA0D; Manufacturer: Murata; Last modified by: J.Jaramillo; Last modified date: 20240309; ComponentLink1Description: Digi-key; ComponentLink1URL: https://www.digikey.com/products/en?keywords=490-7611-1-ND; Supplier 1: Digi-Key; Supplier Part Number 1: 490-7611-1-ND
footprint 0603 (1608 Metric / 20190221 / C-A.Serna.A)
pins: 1, 2

## Cap_22uF_0603_10V
designator C?, comment value 22uF  (hidden comment: 22uF 10V)
CAP CER 22UF 10V X5R 0603; Manufacturer: Murata Electronics North America; Manufacturer Part Number: GRM188R61A226ME15D; Last modified by: J.Jaramillo; Last modified date: 20240309; ComponentLink1Description: Digi-key; ComponentLink1URL: https://www.digikey.com/product-detail/en/murata-electronics-north-america/GRM188R61A226ME15D/490-10476-1-ND/5026394; Supplier 1: Digi-Key; Supplier Part Number 1: 490-10476-1-ND
footprint 0603 (1608 Metric / 20190221 / C-A.Serna.A)
pins: 1, 2

## Cap_22uF_0603_16V
designator C?, comment value 22uF  (hidden comment: 22uF 16V)
CAP CER 22UF 16V X5R 0603; Manufacturer: Samsung Electro-Mechanics; Manufacturer Part Number: CL10A226MO7JZNC; Supplier 1: Digi-Key; Supplier Part Number 1: 1276-7076-1-ND; Last modified by: J.Jaramillo; Last modified date: 20240309; ComponentLink1Description: Digi-Key; ComponentLink1URL: https://www.digikey.com/en/products/detail/samsung-electro-mechanics/CL10A226MO7JZNC/7320581?s=N4IgTCBcDaIIxgOwDYC0iAMLV1QOQBEQBdAXyA
footprint 0603 (1608 Metric / 20190221 / C-A.Serna.A)
pins: 1, 2

## Cap_22uF_0805_6.3V
designator C?, comment value 22uF  (hidden comment: 22uF 6.3V)
CAP CER 22UF 6.3V X5R 0805; Manufacturer: Samsung Electro-Mechanics; Manufacturer Part Number: CL21A226MQQNNNG; Reel stock: N/A; Last modified by: J.Jaramillo; Last modified date: 20240309; ComponentLink1Description: Digi-key; ComponentLink1URL: https://www.digikey.com/product-detail/en/samsung-electro-mechanics/CL21A226MQQNNNG/1276-6460-1-ND/5958088; Supplier 1: Digi-Key; Supplier Part Number 1: 1276-6460-1-ND
footprint 0805
pins: 1, 2

## Cap_22uF_0805_16V
designator C?, comment value 22uF  (hidden comment: 22uF 16V)
CAP CER 22UF 16V X5R 0805; Manufacturer: Samsung Electro-Mechanics; Manufacturer Part Number: CL21A226MOCLRNC; Last modified by: J.Jaramillo; Last modified date: 20240309; ComponentLink1Description: Digi-key; ComponentLink1URL: https://www.digikey.com/products/en?keywords=1276-6780-1-ND; Supplier 1: Digi-Key; Supplier Part Number 1: 1276-6780-1-ND
footprint 0805
pins: 1, 2

## Cap_22uF_0805_25V
designator C?, comment value 22uF  (hidden comment: 22uF 25V)
CAP CER 22UF 25V X5R 0805; Manufacturer: Samsung Electro-Mechanics; Manufacturer Part Number: CL21A226MAYNNNE; Supplier 1: Digi-Key; Supplier Part Number 1: 1276-CL21A226MAYNNNECT-ND; Last modified by: J.Jaramillo; Last modified date: 20240309; ComponentLink1Description: Digi-Key; ComponentLink1URL: https://www.digikey.com/en/products/detail/samsung-electro-mechanics/CL21A226MAYNNNE/10479857
footprint 0805 (2012 Metric / 20190221 / C-A.Serna.A)
pins: 1, 2

## Cap_22uF_1206_6.3V
designator C?, comment value 22uF  (hidden comment: 22uF 6.3V)
CAP CER 22UF 6.3V X5R 1206; Manufacturer: Yageo; Manufacturer Part Number: CC1206KKX5R5BB226; Supplier 1: Digi-Key; Supplier Part Number 1: 311-1937-1-ND; Reel stock: N/A; Last modified by: J.Jaramillo; Last modified date: 20240309; ComponentLink1Description: Digi-Key; ComponentLink1URL: https://www.digikey.com/products/en?keywords=311-1937-1-ND
footprint 1206 (3216 Metric / 20190221 / C-A.Serna.A)
pins: 1, 2

## Cap_22uF_1206_10V_TANT
designator C?, comment value 22uF  (hidden comment: 22uF 10V)
CAP TANT 22UF 10% 10V 1206; Manufacturer: AVX Corporation; Manufacturer Part Number: TAJA226K010RNJ; Supplier 1: Digi-Key; Supplier Part Number 1: 478-1663-1-ND; Reel stock: N/A; Last modified by: J.Jaramillo; Last modified date: 20240309; ComponentLink1Description: Digi-Key; ComponentLink1URL: https://www.digikey.com/product-detail/en/avx-corporation/TAJA226K010RNJ/478-1663-2-ND/563769
footprint 1206 _TANT (3216 Metric / 20230427 / J.Jaramillo)
pins: 1, 2

## Cap_22uF_1206_16V
designator C?, comment value 22uF  (hidden comment: 22uF 16V)
CAP CER 22UF 16V X5R 1206; Manufacturer: Samsung Electro-Mechanics; Manufacturer Part Number: CL31A226MOHNNNE; Supplier 1: Digi-Key; Supplier Part Number 1: 1276-3050-1-ND; Reel stock: N/A; Last modified by: J.Jaramillo; Last modified date: 20240309; ComponentLink1Description: Digi-Key; ComponentLink1URL: https://www.digikey.com/product-detail/en/samsung-electro-mechanics/CL31A226MOHNNNE/1276-3050-2-ND/3888708
footprint 1206
pins: 1, 2

## Cap_22uF_1210_25V
designator C?, comment value 22uF  (hidden comment: 22uF 25V)
CAP CER 22UF 25V X5R 1210; Manufacturer: KYOCERA AVX; Manufacturer Part Number: 12103D226KAT2A; Supplier 1: Digi-Key; Supplier Part Number 1: 478-5999-1-ND; Last modified by: J.Jaramillo; Last modified date: 20240309; ComponentLink1Description: Digi-Key; ComponentLink1URL: https://www.digikey.com/en/products/detail/kyocera-avx/12103D226KAT2A/2208898?s=N4IgTCBcDaIIxjgBgMwBExgGwGkCCAKmHiALoC%2BQA
footprint 1210 (3225 Metric / 20190221 / C-A.Serna.A)
pins: 1, 2

## Cap_30pF_0603_50V
designator C?, comment value 30pF  (hidden comment: 30pF 50V)
CAP CER 30PF 50V C0G/NP0 0603; Manufacturer: KEMET; Manufacturer Part Number: C0603C300J5GACTU; Supplier 1: Digi-Key; Supplier Part Number 1: 399-9057-1-ND; Last modified by: J.Jaramillo; Last modified date: 20240309; ComponentLink1Description: Digi-Key; ComponentLink1URL: https://www.digikey.com/en/products/detail/kemet/C0603C300J5GACTU/655673?s=N4IgTCBcDaIMwE4EFoEAYCsB2ZBGZAcgCIgC6AvkA
footprint 0603
pins: 1, 2

## Cap_33pF_0402_50V
designator C?, comment value 33pF  (hidden comment: 33pF 50V)
CAP CER 33PF 50V C0G/NP0 0402; Manufacturer: Murata Electronics North America; Manufacturer Part Number: GCM1555C1H330JA16D; Supplier 1: Digi-key; Supplier Part Number 1: 490-11148-1-ND; Reel stock: N/A; Last modified by: J.Jaramillo; Last modified date: 20240309; ComponentLink1Description: Digi-key; ComponentLink1URL: https://www.digikey.com/product-detail/en/murata-electronics-north-america/GCM1555C1H330JA16D/490-11148-1-ND/5332988
footprint 0402
footprint 0402_RF
pins: 1, 2

## Cap_33pF_0603_50V
designator C?, comment value 33pF  (hidden comment: 33pF 50V)
CAP CER 33PF 50V C0G/NP0 0603; Manufacturer: Walsin Technologies; Manufacturer Part Number: 0603N330J500CT; Reel stock: N/A; Last modified by: J.Jaramillo; Last modified date: 20240309; ComponentLink1Description: Digi-Key; ComponentLink1URL: https://www.digikey.com/en/products/detail/walsin-technology-corporation/0603N330J500CT/6707550?s=N4IgTCBcDaIIxgJxgLRwGwBYCsaUDkAREAXQF8g; Supplier 1: Digi-Key; Supplier Part Number 1: 1292-1645-1-ND
footprint 0603
pins: 1, 2

## Cap_33pF_0805_50V
designator C?, comment value 33pF  (hidden comment: 33pF 50V)
CAP CER 33PF 50V C0G/NP0 0805; Manufacturer: KEMET; Manufacturer Part Number: C0805C330J5GACTU; Supplier 1: DIig-Key; Supplier Part Number 1: 399-1115-1-ND; Reel stock: N/A; Last modified by: J.Jaramillo; Last modified date: 20240309; ComponentLink1Description: Digi-Key; ComponentLink1URL: https://www.digikey.com/product-detail/en/kemet/C0805C330J5GACTU/399-1115-1-ND/411390
footprint 0805 (2012 Metric / 20190221 / C-A.Serna.A)
pins: 1, 2

## Cap_33uF_1210_6.3V
designator C?, comment value 33uF  (hidden comment: 33uF 6.3V)
CAP CER 33UF 6.3V X5R 1210; Manufacturer: TDK Corporation; Manufacturer Part Number: C3225X5R0J336M250AA; Supplier 1: Digi-Key; Supplier Part Number 1: 445-3953-1-ND; Last modified by: J.Jaramillo; Last modified date: 20240309; ComponentLink1Description: Digi-key; ComponentLink1URL: https://www.digikey.com/en/products/detail/tdk-corporation/C3225X5R0J336M250AA/1944425
footprint 1210 (3225 Metric / 20190221 / C-A.Serna.A)
pins: 1, 2

## Cap_39pF_0402_50V
designator C?, comment value 39pF  (hidden comment: 39nF 50V)
CAP CER 39PF 50V C0G/NP0 0402; Manufacturer: KEMET; Manufacturer Part Number: C0402C390J5GACTU; Last modified by: J.Jaramillo; Last modified date: 20240309; Supplier 1: Digi-Key; Supplier Part Number 1: 399-1018-1-ND; ComponentLink1Description: Digi-Key; ComponentLink1URL: https://www.digikey.com/product-detail/en/kemet/C0402C390J5GACTU/399-1018-1-ND/411293
footprint 0402_RF
footprint 0402
pins: 1, 2

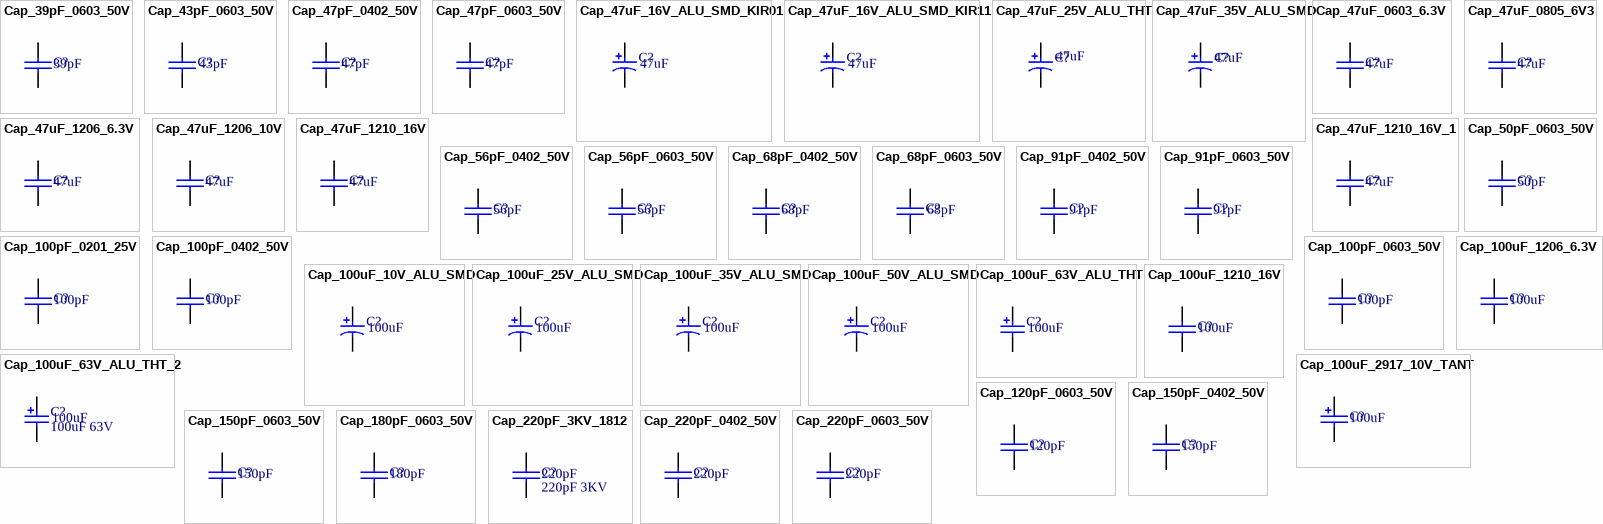
[diagram p4: symbols Cap_39pF_0603_50V to Cap_220pF_0603_50V]

## Cap_39pF_0603_50V
designator C?, comment value 39pF  (hidden comment: 39pF 50V)
CAP CER 39PF 50V C0G/NP0 0603; Manufacturer: Walsin Technology Corporation; Manufacturer Part Number: 0603N390J500CT; Last modified by: J.Jaramillo; Last modified date: 20240309; ComponentLink1Description: Digi-Key; ComponentLink1URL: https://www.digikey.com/product-detail/en/walsin-technology-corporation/0603N390J500CT/1292-1524-1-ND/9355528; Supplier 1: Digi-Key; Supplier Part Number 1: 1292-1524-1-ND
footprint 0603
pins: 1, 2

## Cap_43pF_0603_50V
designator C?, comment value 43pF  (hidden comment: 43pF 50V)
CAP CER 43PF 50V C0G/NPO 0603; Manufacturer: YAGEO; Manufacturer Part Number: CC0603JRNPO9BN430; Supplier 1: Digi-Key; Supplier Part Number 1: 311-3970-1-ND; Last modified by: J.Jaramillo; Last modified date: 20240309; ComponentLink1Description: Digi-Key; ComponentLink1URL: https://www.digikey.com/en/products/detail/yageo/CC0603JRNPO9BN430/5883615
footprint 0603_0.6mm (1608 Metric/20230206/J-A.Sepulveda)
pins: 1, 2

## Cap_47pF_0402_50V
designator C?, comment value 47pF  (hidden comment: 47pF 50V)
CAP CER 47PF 50V C0G/NP0 0402; Manufacturer: Murata Electronics North America; Manufacturer Part Number: GCM1555C1H470GA16D; Supplier 1: Digi-Key; Supplier Part Number 1: 490-16444-1-ND; Reel stock: N/A; Last modified by: J.Jaramillo; Last modified date: 20240309; ComponentLink1Description: Digi-Key; ComponentLink1URL: https://www.digikey.com/product-detail/en/murata-electronics-north-america/GCM1555C1H470GA16D/490-16444-1-ND/7363426
footprint 0402_RF
footprint 0402
pins: 1, 2

## Cap_47pF_0603_50V
designator C?, comment value 47pF  (hidden comment: 47pF 16V)
CAP CER 47PF 50V C0G/NP0 0603; Manufacturer: Yageo; Manufacturer Part Number: CC0603JRNPO9BN470; Last modified by: J.Jaramillo; Last modified date: 20240309; ComponentLink1Description: Digi-Key; ComponentLink1URL: https://www.digikey.com/en/products/detail/yageo/CC0603JRNPO9BN470/302799?s=N4IgTCBcDaIMJwAwDZEGYBSAlAcgBQHkBOAIRwBYB2REAXQF8g; Supplier 1: Digi-Key; Supplier Part Number 1: 311-1065-1-ND
footprint 0603
pins: 1, 2

## Cap_47uF_16V_ALU_SMD_KIR01
designator C?, comment value 47uF  (hidden comment: 47uF 16V)
CAP ALUM 47UF 20% 16V SMD; Manufacturer: Nichicon; Manufacturer Part Number: UCL1C470MCL6GS; Supplier 1: Digi-Key; Supplier Part Number 1: 493-3916-1-ND; Last modified by: J.Jaramillo; Last modified date: 20240309; ComponentLink1Description: Digi-Key; ComponentLink1URL: https://www.digikey.com/product-detail/en/nichicon/UCL1C470MCL6GS/493-3916-1-ND/2300343
footprint RADIAL-CAN_LSx5.3mm_Diax5.0mm_Hx5.8MM_SMD_KIR01 (/ 20190709 / C-A.Serna.A)
pins: 1, 2

## Cap_47uF_16V_ALU_SMD_KIR11
designator C?, comment value 47uF  (hidden comment: 47uF 16V)
CAP ALUM 47UF 20% 16V SMD; Manufacturer: Nichicon; Manufacturer Part Number: UZS1C470MCL1GB; Supplier 1: Digi-Key; Supplier Part Number 1: 493-10140-1-ND; Last modified by: J.Jaramillo; Last modified date: 20200923; ComponentLink1Description: Digi-Key; ComponentLink1URL: https://www.digikey.com/product-detail/en/nichicon/UZS1C470MCL1GB/493-10140-1-ND/3983985
footprint RADIAL-CAN-SMD_Diax6.3mm_Hx4.6mm (20200923/ V-A.Patino)
pins: 1, 2

## Cap_47uF_25V_ALU_THT
designator C?, comment value 47uF  (hidden comment: 47uF 25V)
CAP 47uf/25V,10*16,105℃ RADIAL; Manufacturer: SamXon; Manufacturer Part Number: KM 47U/25V; Last modified by: J.Jaramillo; Last modified date: 20240309; Supplier 1: Poshton; Supplier Part Number 1: KM 47U/25V; ComponentLink1Description: Datasheet; ComponentLink1URL: CMP000351_KM-Series
footprint RADIAL-CAN_LSx2.54mm_Diax6.35mm (/20200127/V-A.Patino)
pins: 1, 2

## Cap_47uF_35V_ALU_SMD
designator C?, comment value 47uF  (hidden comment: 47uF 35V)
CAP ALUM 47UF 20% 35V SMD; Manufacturer: Panasonic Electronic Components; Manufacturer Part Number: EEEFT1V470AR; Last modified by: J.Jaramillo; Last modified date: 20240309; ComponentLink1Description: Digi-Key; ComponentLink1URL: https://www.digikey.com/product-detail/en/panasonic-electronic-components/EEE-FT1V470AR/PCE5014CT-ND/2652069; Supplier 1: Digi-Key; Supplier Part Number 1: PCE5014CT-ND
footprint RADIAL-CAN-SMD_Diax5mm_Hx6.1mm (20190328 / V-A.Patino)
pins: 1, 2

## Cap_47uF_0603_6.3V
designator C?, comment value 47uF  (hidden comment: 47uF 6.3V)
CAP CER 47UF 6.3V X5R 0603; Manufacturer: Murata Electronics; Manufacturer Part Number: ZRB18AR60J476ME01L; Supplier 1: Digi-Key; Supplier Part Number 1: 490-13255-1-ND; Last modified by: J.Jaramillo; Last modified date: 20240309; ComponentLink1Description: Digi-Key; ComponentLink1URL: https://www.digikey.com/en/products/detail/murata-electronics/ZRB18AR60J476ME01L/5877418
footprint 0603 (1608 Metric / 20190221 / C-A.Serna.A)
pins: 1, 2